# Altium schematic symbol library Amin-Library.SCHLIB: 505 symbols (part 1 of 4)
Pins are listed as number, name and electrical type; pins without a type are passive.

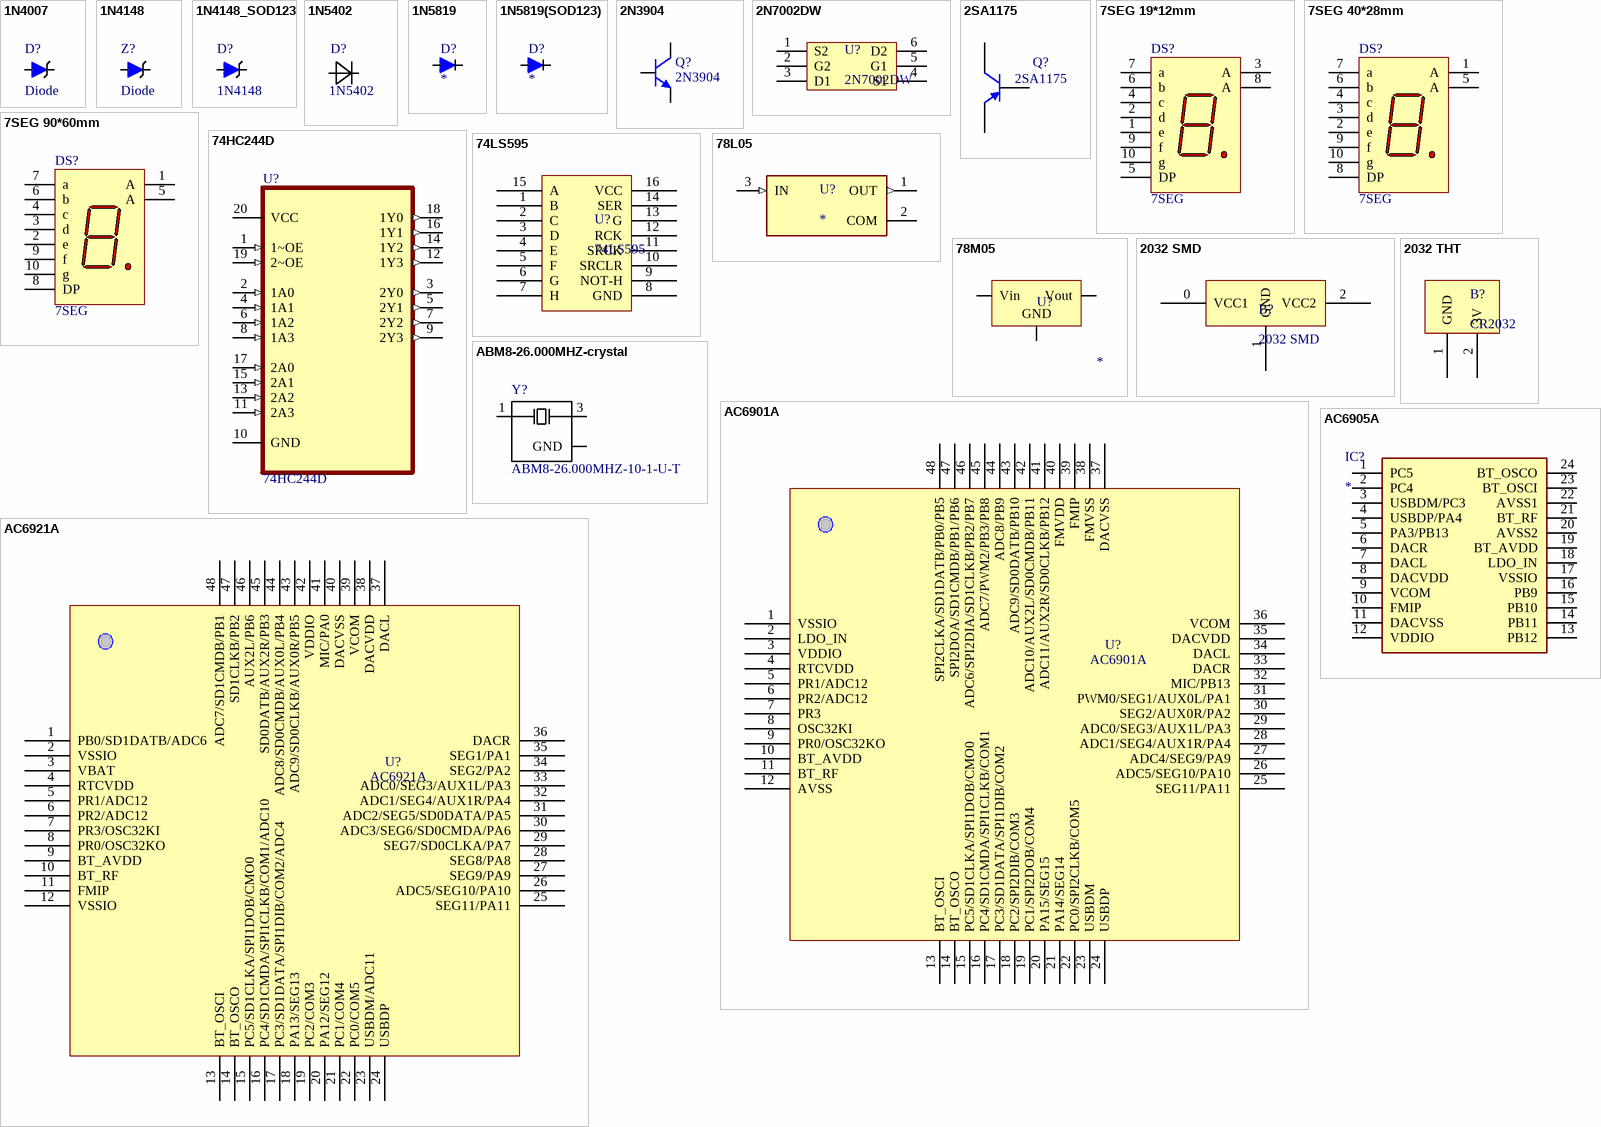
[diagram p0: symbols 1N4007 to AC6921A]

## 1N4007
designator D?, comment Diode
1N4007 DO-214AC; MP: EDZV12B; MF: ROHM Semiconductor; Price: None; Package: None; SnapEDA_Link: https://www.snapeda.com/parts/EDZV12B/EMI/view-part/4479349/?ref=snap; Availability: Unavailable; Value: *
footprint 1N4148
pins: 1 A, 2 C

## 1N4148
designator Z?, comment Diode
MP: EDZV12B; MF: ROHM Semiconductor; Price: None; Package: None; SnapEDA_Link: https://www.snapeda.com/parts/EDZV12B/EMI/view-part/4479349/?ref=snap; Availability: Unavailable; Value: *
footprint 1N4148
pins: 1 A, 2 C

## 1N4148_SOD123
designator D?, comment 1N4148
SOD-123 Package; MP: EDZV12B; MF: ROHM Semiconductor; Price: None; Package: None; SnapEDA_Link: https://www.snapeda.com/parts/EDZV12B/EMI/view-part/4479349/?ref=snap; Availability: Unavailable; Value: *
footprint 1N4148 SOD-123
pins: 1 A, 2 C

## 1N5402
designator D?
SnapEDA_Link: https://www.snapeda.com/parts/1N5402/NTE+Electronics/view-part/?ref=snap; Check_prices: https://www.snapeda.com/parts/1N5402/NTE+Electronics/view-part/?ref=eda; Value: *
pins: A, C

## 1N5819
designator D?
Shotkey diod SOD-523; MP: BAS716; MF: Nexperia USA; SnapEDA_Link: https://www.snapeda.com/parts/BAS716/Nexperia%20USA%20Inc./view-part/143287/?ref=snap; Price: None; Package: SOD-523 NXP Semiconductors; Arrow_Electronics-Purchase-URL: https://snapeda.com/shop?store=Arrow+Electronics&id=143287; Value: *; Availability: Unavailable
footprint 1N5819_SOD523
pins: 1 A, 2 C

## 1N5819(SOD123)
designator D?
Shotkey diod SOD-123; MP: BAS716; MF: Nexperia USA; SnapEDA_Link: https://www.snapeda.com/parts/BAS716/Nexperia%20USA%20Inc./view-part/143287/?ref=snap; Price: None; Package: SOD-523 NXP Semiconductors; Arrow_Electronics-Purchase-URL: https://snapeda.com/shop?store=Arrow+Electronics&id=143287; Value: *; Availability: Unavailable
footprint 1N5819 SOD-123
pins: 1 A, 2 C

## 2N3904
designator Q?
NPN General Purpose Amplifier; Published: 8-Jun-2000; LatestRevisionDate: 15-Jan-2003; LatestRevisionNote: PCB Footprint 'BCY-W3/D4.7' replaced; DatasheetVersion: 1997; PackageVersion: Sep-1998; PackageReference: TO-92A; Publisher: Altium Limited; PackageDescription: TO, Flat Index; 3 In-Line, Axial Leads; Body Dia. 4.5mm; Leads 0.51 x 0.48 mm (max); ComponentLink1Description: Manufacturer Link; ComponentLink1URL: http://www.fairchildsemi.com/; ComponentLink2Description: Datasheet; ComponentLink2URL: http://www.fairchildsemi.com/ds/2N%2F2N3904.pdf
footprint 2N3904 (BJT TRANSISTOR SOT23, 3 pin)
pins: 1 B, 2 E, 3 C

## 2N7002DW
designator U?
DUAL N-CHANNEL ENHANCEMENT MODE MOSFET
footprint SOT363
pins: 1 S2, 2 G2, 3 D1, 4 S1, 5 G1, 6 D2

## 2SA1175
designator Q?
PNP General Purpose Amplifier; Published: 8-Jun-2000; LatestRevisionDate: 15-Jan-2003; LatestRevisionNote: PCB Footprint 'BCY-W3/D4.7' replaced; DatasheetVersion: 1997; PackageVersion: Sep-1998; PackageReference: TO-92A; Publisher: Altium Limited; PackageDescription: TO, Flat Index; 3 In-Line, Axial Leads; Body Dia. 4.5mm; Leads 0.51 x 0.48 mm (max); ComponentLink1Description: Manufacturer Link; ComponentLink1URL: http://www.fairchildsemi.com/; ComponentLink2Description: Datasheet; ComponentLink2URL: http://www.fairchildsemi.com/ds/2N%2F2N3906.pdf
simulation model 2N3906 (PNP)
signal-integrity model 2N3906
footprint 2SA1175 (TO, Flat Index; 3 In-Line, Axial Leads; Body Dia. 4.5mm; Leads 0.51 x 0.48 mm (max))
pins: 1 E, 2 B, 3 C

## 7SEG 19*12mm
designator DS?, comment 7SEG
7-Segment Display 19*12mm; LED_Colour: As AlInGaP Red; Published: 26-May-2004; LatestRevisionDate: 11-Oct-2004; LatestRevisionNote: Display outline superimposed on PCB Footprint.; DatasheetDocument: 20-Nov-2001; PackageDocument: 01-Oct-2001; PackageReference: Case-5; Publisher: Altium Limited; ComponentLink1Description: Manufacturer Link; ComponentLink1URL: http://www.agilent.com/; ComponentLink2Description: Datasheet; ComponentLink2URL: http://cp.literature.agilent.com/litweb/pdf/5988-4823EN.pdf
footprint 7Seg 19*12 mm (19*12 mm)
pins: 1 e "Cathode", 2 d "Cathode", 3 A "Common Anode", 4 c "Cathode", 5 DP "Cathode", 6 b "Cathode", 7 a "Cathode", 8 A "Common Anode", 9 f "Cathode", 10 g "Cathode"

## 7SEG 40*28mm
designator DS?, comment 7SEG
7-Segment Display 40*28mm; LED_Colour: As AlInGaP Red; Published: 26-May-2004; LatestRevisionDate: 11-Oct-2004; LatestRevisionNote: Display outline superimposed on PCB Footprint.; DatasheetDocument: 20-Nov-2001; PackageDocument: 01-Oct-2001; PackageReference: Case-5; Publisher: Altium Limited; ComponentLink1Description: Manufacturer Link; ComponentLink1URL: http://www.agilent.com/; ComponentLink2Description: Datasheet; ComponentLink2URL: http://cp.literature.agilent.com/litweb/pdf/5988-4823EN.pdf
footprint 7Seg 40*28
pins: 1 A "Common Anode", 2 e "Cathode", 3 d "Cathode", 4 c "Cathode", 5 A "Common Anode", 6 b "Cathode", 7 a "Cathode", 8 DP "Cathode", 9 f "Cathode", 10 g "Cathode"

## 7SEG 90*60mm
designator DS?, comment 7SEG
7-Segment Display 90*60mm; LED_Colour: As AlInGaP Red; Published: 26-May-2004; LatestRevisionDate: 11-Oct-2004; LatestRevisionNote: Display outline superimposed on PCB Footprint.; DatasheetDocument: 20-Nov-2001; PackageDocument: 01-Oct-2001; PackageReference: Case-5; Publisher: Altium Limited; ComponentLink1Description: Manufacturer Link; ComponentLink1URL: http://www.agilent.com/; ComponentLink2Description: Datasheet; ComponentLink2URL: http://cp.literature.agilent.com/litweb/pdf/5988-4823EN.pdf
footprint 7Seg 90*60
footprint 7Seg 90*60 - No Wiring COMMON Anod
footprint 7Seg 90*60 - No Wiring COMMON Cathod
footprint 7Seg 90*60 - No Wiring COMMON Cathod - 1206
pins: 1 A "Common Anode", 2 e "Cathode", 3 d "Cathode", 4 c "Cathode", 5 A "Common Anode", 6 b "Cathode", 7 a "Cathode", 8 DP "Cathode", 9 f "Cathode", 10 g "Cathode"

## 74HC244D
designator U?
Octal buffer/line driver 3-state; MF: {'manufacturer': u'Nexperia USA'}; MP: 74HC244D,653; Value: *; Price: None; Package: None; Availability: Unavailable
footprint Model Name (Footprint not found)
footprint 74HC244D (Octal buffer/line driver - SO20 Package)
pins: 1 1~OE (in), 2 1A0 (in), 3 2Y0 (out), 4 1A1 (in), 5 2Y1 (out), 6 1A2 (in), 7 2Y2 (out), 8 1A3 (in), 9 2Y3 (out), 10 GND, 11 2A3 (in), 12 1Y3 (out), 13 2A2 (in), 14 1Y2 (out), 15 2A1 (in), 16 1Y1 (out), 17 2A0 (in), 18 1Y0 (out), 19 2~OE (in), 20 VCC (power)

## 74LS595
designator U?
footprint D016_N (16-Pin Small Outline Integrated Circuit 1.27 mm Pitch, IPC Medium Density)
footprint J016D (DIP; 16 Leads; Row Spacing 7.62 mm; Pitch 2.54 mm)
pins: 1 B, 2 C, 3 D, 4 E, 5 F, 6 G, 7 H, 8 GND, 9 NOT-H, 10 SRCLR, 11 SRCK, 12 RCK, 13 G, 14 SER, 15 A, 16 VCC

## 78L05
designator U?
Linear Voltage Regulator IC 1 Output 100mA SOT-89-3; MP: UA78L05CPK; MF: Texas Instruments; Availability: Unavailable; Package: SOT-89-3 Texas Instruments; SnapEDA_Link: https://www.snapeda.com/parts/UA78L05CPK/Texas%20Instruments/view-part/512891/?ref=snap; Value: *; Price: None
footprint 78L05
pins: 1 OUT (out), 2 COM (power), 3 IN (in)

## 78M05
designator U?
Voltage Regulator L7805 DPAK; Published: 24-Mar-1999; LatestRevisionDate: 29-May-2009; LatestRevisionNote: IPC-7351 Footprint Added.; PackageReference: D2PAK; Publisher: Altium Limited; PackageDescription: 3-Pin Transistor Outline Package 2.54 mm Pitch, 15.1 mm Lead Span
footprint 78M05 (D-PAK)
pins: 1 Vin, 2 GND, 3 Vout

## 2032 SMD
designator B?
footprint 2032 SMD
pins: 0 VCC1, 1 GND, 2 VCC2

## 2032 THT
designator B?, comment CR2032
footprint CR2032THT
pins: 1 GND, 2 3V

## ABM8-26.000MHZ-crystal
designator Y?, comment ABM8-26.000MHZ-10-1-U-T
26MHz Â±10ppm Crystal 10pF 50 Ohms 4-SMD, No Lead; MF: Abracon; Digi-Key_Part_Number: 300-8230-1-ND; SnapEDA_Link: https://www.snapeda.com/parts/ABM8-26.000MHZ-10-1-U-T/Abracon%20LLC/view-part/356267/?ref=snap; Digi-Key_Purchase_URL: https://www.digikey.com/product-detail/en/abracon-llc/ABM8-26.000MHZ-10-1-U-T/300-8230-1-ND/687923?utm_source=snapeda&utm_medium=aggregator&utm_campaign=symbol; MP: ABM8-26.000MHZ-10-1-U-T; Package: SMD-4 Abracon; Value: *
footprint *OSCSC320X250X100N
pins: 1, 2 GND (power), 3, 4 GND (power)

## AC6901A
designator U?
footprint AC6901a
pins: 1 VSSIO, 2 LDO_IN, 3 VDDIO, 4 RTCVDD, 5 PR1/ADC12, 6 PR2/ADC12, 7 PR3, 8 OSC32KI, 9 PR0/OSC32KO, 10 BT_AVDD, 11 BT_RF, 12 AVSS, 13 BT_OSCI, 14 BT_OSCO, 15 PC5/SD1CLKA/SPI1DOB/CMO0, 16 PC4/SD1CMDA/SPI1CLKB/COM1, 17 PC3/SD1DATA/SPI1DIB/COM2, 18 PC2/SPI2DIB/COM3, 19 PC1/SPI2DOB/COM4, 20 PA15/SEG15, 21 PA14/SEG14, 22 PC0/SPI2CLKB/COM5, 23 USBDM, 24 USBDP, 25 SEG11/PA11, 26 ADC5/SEG10/PA10, 27 ADC4/SEG9/PA9, 28 ADC1/SEG4/AUX1R/PA4, 29 ADC0/SEG3/AUX1L/PA3, 30 SEG2/AUX0R/PA2, 31 PWM0/SEG1/AUX0L/PA1, 32 MIC/PB13, 33 DACR, 34 DACL, 35 DACVDD, 36 VCOM, 37 DACVSS, 38 FMVSS, 39 FMIP, 40 FMVDD, 41 ADC11/AUX2R/SD0CLKB/PB12, 42 ADC10/AUX2L/SD0CMDB/PB11, 43 ADC9/SD0DATB/PB10, 44 ADC8/PB9, 45 ADC7/PWM2/PB3/PB8, 46 ADC6/SPI2DIA/SD1CLKB/PB2/PB7, 47 SPI2DOA/SD1CMDB/PB1/PB6, 48 SPI2CLKA/SD1DATB/PB0/PB5

## AC6905A
designator IC?
Integrated Circuit; Manufacturer_Name: JIELI; Manufacturer_Part_Number: AC6905A; Datasheet Link: http://img005.hc360.cn/k1/M09/34/E3/wKhQwFmw58KEPsWjAAAAAJGE4z0447.pdf; Height: 1.8mm
footprint AC6905
pins: 1 PC5, 2 PC4, 3 USBDM/PC3, 4 USBDP/PA4, 5 PA3/PB13, 6 DACR, 7 DACL, 8 DACVDD, 9 VCOM, 10 FMIP, 11 DACVSS, 12 VDDIO, 13 PB12, 14 PB11, 15 PB10, 16 PB9, 17 VSSIO, 18 LDO_IN, 19 BT_AVDD, 20 AVSS2, 21 BT_RF, 22 AVSS1, 23 BT_OSCI, 24 BT_OSCO

## AC6921A
designator U?
footprint AC6921a
pins: 1 PB0/SD1DATB/ADC6, 2 VSSIO, 3 VBAT, 4 RTCVDD, 5 PR1/ADC12, 6 PR2/ADC12, 7 PR3/OSC32KI, 8 PR0/OSC32KO, 9 BT_AVDD, 10 BT_RF, 11 FMIP, 12 VSSIO, 13 BT_OSCI, 14 BT_OSCO, 15 PC5/SD1CLKA/SPI1DOB/CMO0, 16 PC4/SD1CMDA/SPI1CLKB/COM1/ADC10, 17 PC3/SD1DATA/SPI1DIB/COM2/ADC4, 18 PA13/SEG13, 19 PC2/COM3, 20 PA12/SEG12, 21 PC1/COM4, 22 PC0/COM5, 23 USBDM/ADC11, 24 USBDP, 25 SEG11/PA11, 26 ADC5/SEG10/PA10, 27 SEG9/PA9, 28 SEG8/PA8, 29 SEG7/SD0CLKA/PA7, 30 ADC3/SEG6/SD0CMDA/PA6, 31 ADC2/SEG5/SD0DATA/PA5, 32 ADC1/SEG4/AUX1R/PA4, 33 ADC0/SEG3/AUX1L/PA3, 34 SEG2/PA2, 35 SEG1/PA1, 36 DACR, 37 DACL, 38 DACVDD, 39 VCOM, 40 DACVSS, 41 MIC/PA0, 42 VDDIO, 43 ADC9/SD0CLKB/AUX0R/PB5, 44 ADC8/SD0CMDB/AUX0L/PB4, 45 SD0DATB/AUX2R/PB3, 46 AUX2L/PB6, 47 SD1CLKB/PB2, 48 ADC7/SD1CMDB/PB1

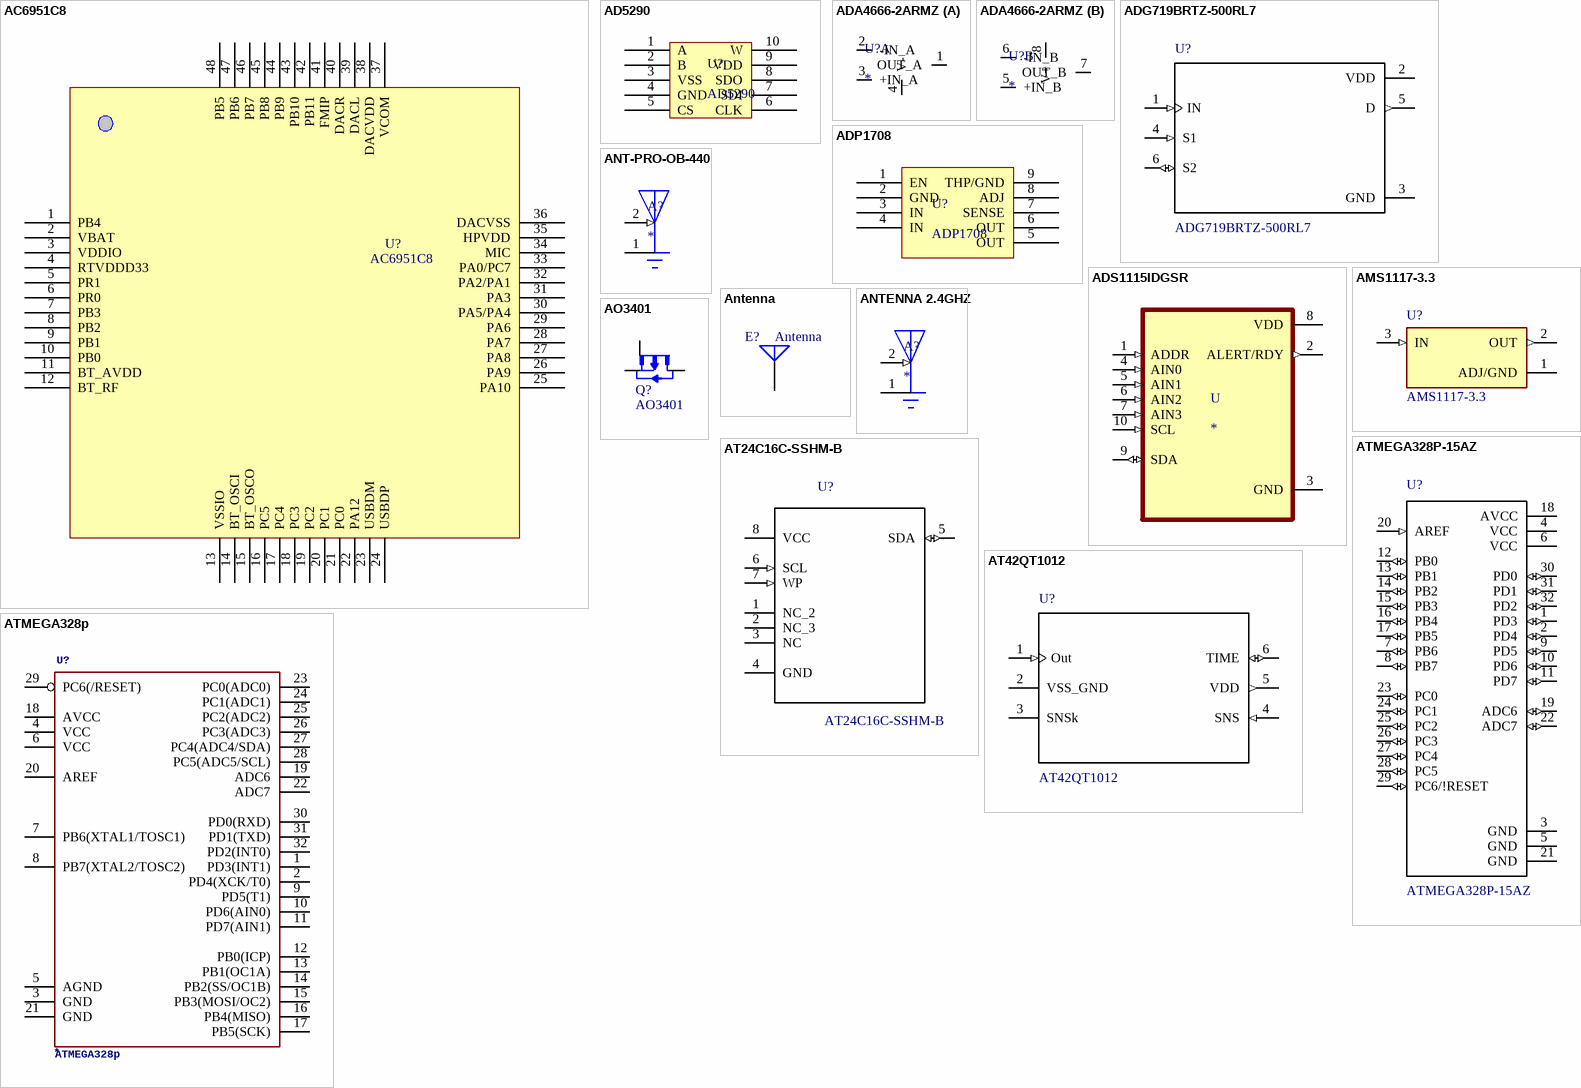
[diagram p1: symbols AC6951C8 to ATMEGA328P-15AZ]

## AC6951C8
designator U?
footprint AC6951C8 (LQFP48)
pins: 1 PB4, 2 VBAT, 3 VDDIO, 4 RTVDDD33, 5 PR1, 6 PR0, 7 PB3, 8 PB2, 9 PB1, 10 PB0, 11 BT_AVDD, 12 BT_RF, 13 VSSIO, 14 BT_OSCI, 15 BT_OSCO, 16 PC5, 17 PC4, 18 PC3, 19 PC2, 20 PC1, 21 PC0, 22 PA12, 23 USBDM, 24 USBDP, 25 PA10, 26 PA9, 27 PA8, 28 PA7, 29 PA6, 30 PA5/PA4, 31 PA3, 32 PA2/PA1, 33 PA0/PC7, 34 MIC, 35 HPVDD, 36 DACVSS, 37 VCOM, 38 DACVDD, 39 DACL, 40 DACR, 41 FMIP, 42 PB11, 43 PB10, 44 PB9, 45 PB8, 46 PB7, 47 PB6, 48 PB5

## AD5290
designator U?
Digital Potentiometer
footprint MSOP10 (MSOP 10 pitch 0.5mm)
pins: 1 A, 2 B, 3 VSS, 4 GND, 5 CS, 6 CLK, 7 SDI, 8 SDO, 9 VDD, 10 W

## ADA4666-2ARMZ
designator U?
Integrated Circuit; Manufacturer_Name: Analog Devices; Manufacturer_Part_Number: ADA4666-2ARMZ; Datasheet Link: https://docs-emea.rs-online.com/webdocs/1284/0900766b81284aba.pdf; Height: 1.1mm; Arrow Part Number: ADA4666-2ARMZ; Arrow Price/Stock: https://www.arrow.com/en/products/ada4666-2armz/analog-devices; Mouser Part Number: 584-ADA4666-2ARMZ; Mouser Price/Stock: https://www.mouser.com/Search/Refine.aspx?Keyword=584-ADA4666-2ARMZ
footprint ADA4666-2ARMZ
part A pins: 1 OUT_A, 2 -IN_A, 3 +IN_A, 4 V- (power)
part B pins: 5 +IN_B, 6 -IN_B, 7 OUT_B, 8 V+

## ADG719BRTZ-500RL7
designator U?
Analogue Switch, SPDT, 1, 4 ohm, 1.8V to 5.5V, SOT-23, 6; MF: Analog Devices; Package: SOT-23-6 Analog Devices; Availability: Unavailable; MP: ADG719BRTZ-500RL7; Price: None; SnapEDA_Link: https://www.snapeda.com/parts/ADG719BRTZ-500RL7/Analog%20Devices%20Inc./view-part/?ref=snap; Value: *
footprint ADG719
pins: 1 IN (in), 2 VDD (power), 3 GND (power), 4 S1 (in), 5 D (out), 6 S2 (io)

## ADP1708
designator U?
1 A, Low Dropout,  CMOS Linear Regulator
footprint SOIC 8 - THPAD (8-Pin Small Outline Integrated Circuit 1.27 mm Pitch, IPC Medium Density)
pins: 1 EN, 2 GND, 3 IN, 4 IN, 5 OUT, 6 OUT, 7 SENSE, 8 ADJ, 9 THP/GND

## ADS1115IDGSR
designator U
16-Bit 860SPS 4-Ch Delta-Sigma ADC With PGA, Oscillator, Vref, Comparator, and I2C 10-VSSOP -40 to 125; MF: Texas Instruments; MP: ADS1115IDGSR; SnapEDA_Link: https://www.snapeda.com/parts/ADS1115IDGSR/Texas%20Instruments/view-part/45903/?ref=snap; Value: *; Texas_Instruments-Purchase-URL: https://snapeda.com/shop?store=Texas+Instruments&id=45903; Price: None; Availability: Good; Mouser-Purchase-URL: https://snapeda.com/shop?store=Mouser&id=45903; Package: VSSOP-10 Texas Instruments; DigiKey-Purchase-URL: https://snapeda.com/shop?store=DigiKey&id=45903
footprint ADS1115_S
pins: 1 ADDR (in), 2 ALERT/RDY (out), 3 GND (power), 4 AIN0 (in), 5 AIN1 (in), 6 AIN2 (in), 7 AIN3 (in), 8 VDD (power), 9 SDA (io), 10 SCL (in)

## AMS1117-3.3
designator U?
Sot223/Pkg 1-Amp 3.3-Volt Low Drop Out Voltage Regulatator; MF: Advanced Monolithic Systems; MP: AMS1117-3.3; SnapEDA_Link: https://www.snapeda.com/parts/AMS1117-3.3/Advanced%20Monolithic%20Systems/view-part/?ref=snap; Availability: Unavailable; Package: None; Price: None; Value: *
footprint AMS1117
pins: 1 ADJ/GND (power), 2 OUT (out), 3 IN (in)

## ANT-PRO-OB-440
designator A?
2.4GHz Bluetooth, WirelessHART, WLAN, Zigbeeâ„¢ Stamped Metal RF Antenna 2.4GHz ~ 2.5GHz Solder Surface Mount; MP: PRO-OB-440; MF: Proant AB; SnapEDA_Link: https://www.snapeda.com/parts/PRO-OB-440/Proant%20AB/view-part/2307534/?ref=snap; Digi-Key_Purchase_URL: https://www.digikey.com/product-detail/en/proant-ab/PRO-OB-440/1532-1001-1-ND/4895684?utm_source=snapeda&utm_medium=aggregator&utm_campaign=symbol; Value: *; Package: None; Digi-Key_Part_Number: 1532-1001-1-ND
footprint ANT_PRO-OB-440
pins: 1 GND (power), 2 FEED (in)

## Antenna
designator E?
Generic Antenna; Published: 24-Mar-1999; LatestRevisionDate: 17-Jul-2002; LatestRevisionNote: Re-released for DXP Platform.; PackageReference: PIN1; Publisher: Altium Limited
footprint Antenna
pins: 1 A

## ANTENNA 2.4GHZ
designator A?
ESP32 ANTENNA; MP: PRO-OB-440; MF: Proant AB; SnapEDA_Link: https://www.snapeda.com/parts/PRO-OB-440/Proant%20AB/view-part/2307534/?ref=snap; Digi-Key_Purchase_URL: https://www.digikey.com/product-detail/en/proant-ab/PRO-OB-440/1532-1001-1-ND/4895684?utm_source=snapeda&utm_medium=aggregator&utm_campaign=symbol; Value: *; Package: None; Digi-Key_Part_Number: 1532-1001-1-ND
footprint ANTENNA 2.4GHZ (ESP32 ANTENNA)
footprint ANTENNA 2.4GHZ - TI (TI ANTENNA)
footprint ANTENNA 2.4GHZ - NXP (ESP32 ANTENNA)
footprint ANTENNA 2.4GHZ - NXP 2 (ESP32 ANTENNA)
pins: 1 GND (power), 2 FEED (in)

## AO3401
designator Q?
P-Channel 30V 4A _Ta_ 1.4W _Ta_ Surface Mount SOT-23-3; MF: Alpha & Omega Semiconductor; Value: *; MP: AO3401; SnapEDA_Link: https://www.snapeda.com/parts/AO3401/Alpha%20%26%20Omega%20Semiconductor/view-part/4592622/?ref=snap; Availability: Unavailable; Package: SOT-23-3 Alpha &amp; Omega Semiconductor; Price: None
footprint AO3401 (SOT23, 3 pin)
pins: 1 G, 2 S, 3 D

## AT24C16C-SSHM-B
designator U?
AT24C16C Series 16 Kb _2 K x 8_ 1.7 V I2C-Compatible Serial EEPROM - SOIC-8; MF: Microchip; Price: None; Package: SOIC-8 Microchip; Availability: Unavailable; SnapEDA_Link: https://www.snapeda.com/parts/AT24C16C-SSHM-B/Microchip/view-part/?ref=snap; MP: AT24C16C-SSHM-B; Value: *
footprint *SOIC127P600X175-8N
pins: 1 NC_2, 2 NC_3, 3 NC, 4 GND, 5 SDA (io), 6 SCL (in), 7 WP (in), 8 VCC (power)

## AT42QT1012
designator U?
capacitance touch sensor; MP: ADG719BRTZ-500RL7; MF: Analog Devices; Package: SOT-23-6 Analog Devices; Availability: Unavailable; Price: None; SnapEDA_Link: https://www.snapeda.com/parts/ADG719BRTZ-500RL7/Analog%20Devices%20Inc./view-part/?ref=snap; Value: *
footprint AT42QT1012
pins: 1 Out (in), 2 VSS_GND (power), 3 SNSk (power), 4 SNS (in), 5 VDD (out), 6 TIME (io)

## ATMEGA328p
designator U?
NAME: *
footprint Atmega328p
pins: 1 PD3(INT1), 2 PD4(XCK/T0), 3 GND, 4 VCC, 5 AGND, 6 VCC, 7 PB6(XTAL1/TOSC1), 8 PB7(XTAL2/TOSC2), 9 PD5(T1), 10 PD6(AIN0), 11 PD7(AIN1), 12 PB0(ICP), 13 PB1(OC1A), 14 PB2(SS/OC1B), 15 PB3(MOSI/OC2), 16 PB4(MISO), 17 PB5(SCK), 18 AVCC, 19 ADC6, 20 AREF, 21 GND, 22 ADC7, 23 PC0(ADC0), 24 PC1(ADC1), 25 PC2(ADC2), 26 PC3(ADC3), 27 PC4(ADC4/SDA), 28 PC5(ADC5/SCL), 29 PC6(/RESET), 30 PD0(RXD), 31 PD1(TXD), 32 PD2(INT0)

## ATMEGA328P-15AZ
designator U?
MCU 8-bit ATmega AVR RISC 32KB Flash 3.3V/5V Automotive 32-Pin TQFP; MF: Microchip; SnapEDA_Link: https://www.snapeda.com/parts/ATMEGA328P-15AZ/Microchip/view-part/?ref=snap; Availability: Unavailable; Package: TQFP-32 Microchip; MP: ATMEGA328P-15AZ; Price: None; Value: *
footprint Atmega328p
pins: 1 PD3 (io), 2 PD4 (io), 3 GND (power), 4 VCC (power), 5 GND (power), 6 VCC (power), 7 PB6 (io), 8 PB7 (io), 9 PD5 (io), 10 PD6 (io), 11 PD7 (io), 12 PB0 (io), 13 PB1 (io), 14 PB2 (io), 15 PB3 (io), 16 PB4 (io), 17 PB5 (io), 18 AVCC (power), 19 ADC6 (io), 20 AREF (in), 21 GND (power), 22 ADC7 (io), 23 PC0 (io), 24 PC1 (io), 25 PC2 (io), 26 PC3 (io), 27 PC4 (io), 28 PC5 (io), 29 PC6/!RESET (io), 30 PD0 (io), 31 PD1 (io), 32 PD2 (io)

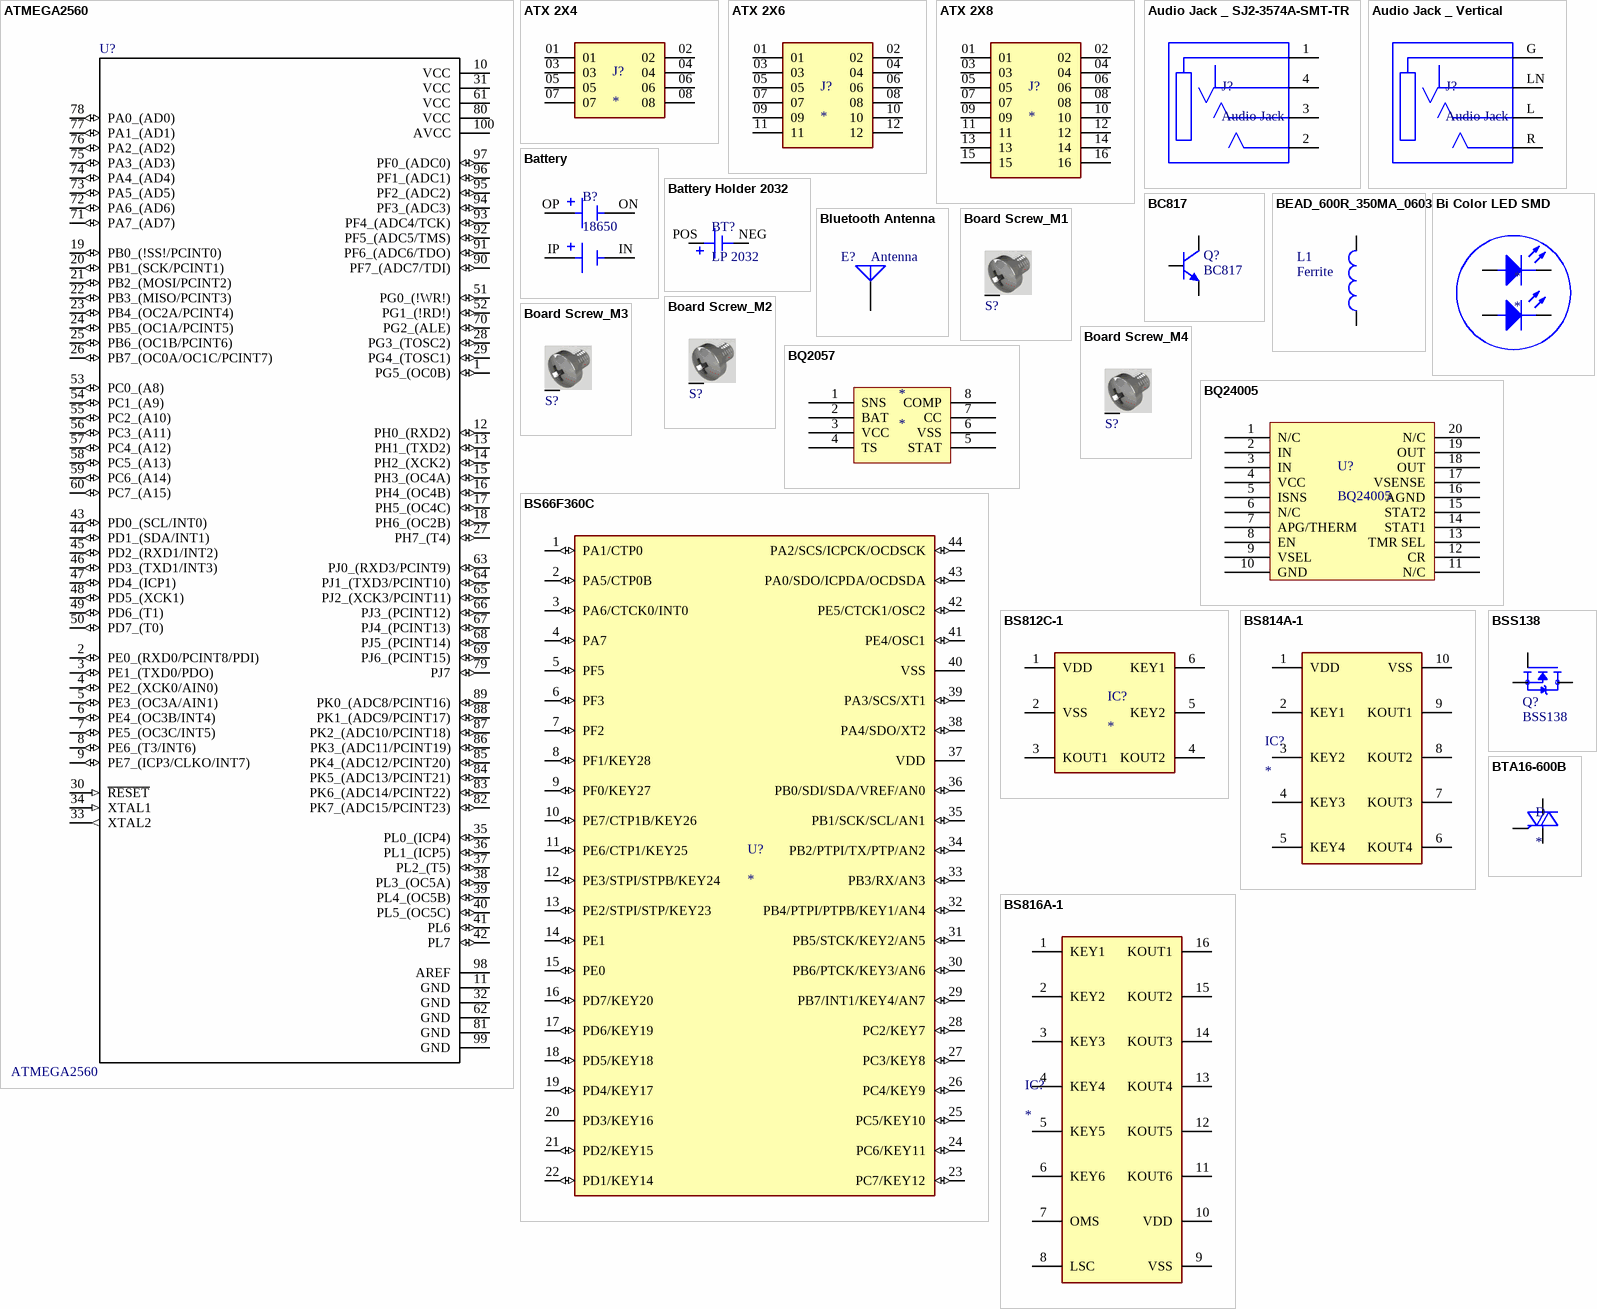
[diagram p2: symbols ATMEGA2560 to BTA16-600B]

## ATMEGA2560
designator U?
Semiconductors and Actives, ic, Microprocessors, mcu, Microcontrollers; MF: Microchip; Price: None; SnapEDA_Link: https://www.snapeda.com/parts/ATMEGA2560/Microchip/view-part/?ref=snap; Availability: Unavailable; MP: ATMEGA2560; Package: TQFP-100 Microchip; Value: *
footprint Atmega2560
pins: 1 PG5_(OC0B) (io), 2 PE0_(RXD0/PCINT8/PDI) (io), 3 PE1_(TXD0/PDO) (io), 4 PE2_(XCK0/AIN0) (io), 5 PE3_(OC3A/AIN1) (io), 6 PE4_(OC3B/INT4) (io), 7 PE5_(OC3C/INT5) (io), 8 PE6_(T3/INT6) (io), 9 PE7_(ICP3/CLKO/INT7) (io), 10 VCC (power), 11 GND (power), 12 PH0_(RXD2) (io), 13 PH1_(TXD2) (io), 14 PH2_(XCK2) (io), 15 PH3_(OC4A) (io), 16 PH4_(OC4B) (io), 17 PH5_(OC4C) (io), 18 PH6_(OC2B) (io), 19 PB0_(!SS!/PCINT0) (io), 20 PB1_(SCK/PCINT1) (io), 21 PB2_(MOSI/PCINT2) (io), 22 PB3_(MISO/PCINT3) (io), 23 PB4_(OC2A/PCINT4) (io), 24 PB5_(OC1A/PCINT5) (io), 25 PB6_(OC1B/PCINT6) (io), 26 PB7_(OC0A/OC1C/PCINT7) (io), 27 PH7_(T4) (io), 28 PG3_(TOSC2) (io), 29 PG4_(TOSC1) (io), 30 ~{RESET} (in), 31 VCC (power), 32 GND (power), 33 XTAL2 (out), 34 XTAL1 (in), 35 PL0_(ICP4) (io), 36 PL1_(ICP5) (io), 37 PL2_(T5) (io), 38 PL3_(OC5A) (io), 39 PL4_(OC5B) (io), 40 PL5_(OC5C) (io), 41 PL6 (io), 42 PL7 (io), 43 PD0_(SCL/INT0) (io), 44 PD1_(SDA/INT1) (io), 45 PD2_(RXD1/INT2) (io), 46 PD3_(TXD1/INT3) (io), 47 PD4_(ICP1) (io), 48 PD5_(XCK1) (io), 49 PD6_(T1) (io), 50 PD7_(T0) (io), 51 PG0_(!WR!) (io), 52 PG1_(!RD!) (io), 53 PC0_(A8) (io), 54 PC1_(A9) (io), 55 PC2_(A10) (io), 56 PC3_(A11) (io), 57 PC4_(A12) (io), 58 PC5_(A13) (io), 59 PC6_(A14) (io), 60 PC7_(A15) (io), 61 VCC (power), 62 GND (power), 63 PJ0_(RXD3/PCINT9) (io), 64 PJ1_(TXD3/PCINT10) (io), 65 PJ2_(XCK3/PCINT11) (io), 66 PJ3_(PCINT12) (io), 67 PJ4_(PCINT13) (io), 68 PJ5_(PCINT14) (io), 69 PJ6_(PCINT15) (io), 70 PG2_(ALE) (io), 71 PA7_(AD7) (io), 72 PA6_(AD6) (io), 73 PA5_(AD5) (io), 74 PA4_(AD4) (io), 75 PA3_(AD3) (io), 76 PA2_(AD2) (io), 77 PA1_(AD1) (io), 78 PA0_(AD0) (io), 79 PJ7 (io), 80 VCC (power), 81 GND (power), 82 PK7_(ADC15/PCINT23) (io), 83 PK6_(ADC14/PCINT22) (io), 84 PK5_(ADC13/PCINT21) (io), 85 PK4_(ADC12/PCINT20) (io), 86 PK3_(ADC11/PCINT19) (io), 87 PK2_(ADC10/PCINT18) (io), 88 PK1_(ADC9/PCINT17) (io), 89 PK0_(ADC8/PCINT16) (io), 90 PF7_(ADC7/TDI) (io), 91 PF6_(ADC6/TDO) (io), 92 PF5_(ADC5/TMS) (io), 93 PF4_(ADC4/TCK) (io), 94 PF3_(ADC3) (io), 95 PF2_(ADC2) (io), 96 PF1_(ADC1) (io), 97 PF0_(ADC0) (io), 98 AREF (power), 99 GND (power), 100 AVCC (power)

## ATX 2X4
designator J?
ATX Connector; MP: TW-06-09-F-D-170-SM; MF: Samtec; Price: None; Purchase-URL: https://pricing.snapeda.com/search/part/TW-06-09-F-D-170-SM/?ref=eda; Package: None; Check_prices: https://www.snapeda.com/parts/TW-06-09-F-D-170-SM/Samtec/view-part/3525255/?ref=eda; SnapEDA_Link: https://www.snapeda.com/parts/TW-06-09-F-D-170-SM/Samtec/view-part/3525255/?ref=snap; Value: *; Availability: Bad
footprint ATX 2X4
footprint ATX 2X4 - R
pins: 01, 02, 03, 04, 05, 06, 07, 08

## ATX 2X6
designator J?
ATX Connector; MP: TW-06-09-F-D-170-SM; MF: Samtec; Price: None; Purchase-URL: https://pricing.snapeda.com/search/part/TW-06-09-F-D-170-SM/?ref=eda; Package: None; Check_prices: https://www.snapeda.com/parts/TW-06-09-F-D-170-SM/Samtec/view-part/3525255/?ref=eda; SnapEDA_Link: https://www.snapeda.com/parts/TW-06-09-F-D-170-SM/Samtec/view-part/3525255/?ref=snap; Value: *; Availability: Bad
footprint ATX 2X6
footprint ATX 2X6 - R
pins: 01, 02, 03, 04, 05, 06, 07, 08, 09, 10, 11, 12

## ATX 2X8
designator J?
ATX Connector; MP: TW-06-09-F-D-170-SM; MF: Samtec; Price: None; Purchase-URL: https://pricing.snapeda.com/search/part/TW-06-09-F-D-170-SM/?ref=eda; Package: None; Check_prices: https://www.snapeda.com/parts/TW-06-09-F-D-170-SM/Samtec/view-part/3525255/?ref=eda; SnapEDA_Link: https://www.snapeda.com/parts/TW-06-09-F-D-170-SM/Samtec/view-part/3525255/?ref=snap; Value: *; Availability: Bad
footprint ATX 2X8
footprint ATX 2X8 - R
pins: 01, 02, 03, 04, 05, 06, 07, 08, 09, 10, 11, 12, 13, 14, 15, 16

## Audio Jack _ SJ2-3574A-SMT-TR
designator J?, comment Audio Jack
3.5 mm, Stereo, Right Angle, Surface Mount _SMT_, Audio Jack Connector; MF: CUI Devices; MP: SJ2-3574A-SMT-TR; Package: None; Value: *; Availability: Unavailable; SnapEDA_Link: https://www.snapeda.com/parts/SJ2-3574A-SMT-TR/CUI%20Devices/view-part/648175/?ref=snap; Price: None
footprint Audio jack_ CUI_SJ2-3574A-SMT-TR
pins: 1 SLEEVE, 2 TIP, 3 RING1, 4 RING2

## Audio Jack _ Vertical
designator J?, comment Audio Jack
3.5 mm, Stereo, Vertical; MF: CUI Devices; MP: SJ2-3574A-SMT-TR; Package: None; Value: *; Availability: Unavailable; SnapEDA_Link: https://www.snapeda.com/parts/SJ2-3574A-SMT-TR/CUI%20Devices/view-part/648175/?ref=snap; Price: None
footprint 3.5_Female
pins: G SLEEVE, L RING1, LN RING2, R TIP

## Battery
designator B?, comment 18650
Battery Holder; MP: LP2032SM-JJ-GTR; MF: MPD; DigiKey-Purchase-URL: https://snapeda.com/shop?store=DigiKey&id=288457; Value: *; Package: Non-Standard MPD; Price: None; SnapEDA_Link: https://www.snapeda.com/parts/LP2032SM-JJ-GTR/MPD%20(Memory%20Protection%20Devices)/view-part/288457/?ref=snap; Availability: Warning
footprint bATTERY (HHG1D-1)
pins: IN, IP, ON, OP

## Battery Holder 2032
designator BT?, comment LP 2032
Battery Holder (Open) Coin, 20.0mm 1 Cell SMD (SMT) Tab; MP: LP2032SM-JJ-GTR; MF: MPD; DigiKey-Purchase-URL: https://snapeda.com/shop?store=DigiKey&id=288457; Value: *; Package: Non-Standard MPD; Price: None; SnapEDA_Link: https://www.snapeda.com/parts/LP2032SM-JJ-GTR/MPD%20(Memory%20Protection%20Devices)/view-part/288457/?ref=snap; Availability: Warning
footprint battery Holder 2032
pins: NEG, POS

## BC817
designator Q?
NPN General Purpose Amplifier BJT; Published: 8-Jun-2000; LatestRevisionDate: 15-Jan-2003; LatestRevisionNote: PCB Footprint 'BCY-W3/D4.7' replaced; DatasheetVersion: 1997; PackageVersion: Sep-1998; PackageReference: TO-92A; Publisher: Altium Limited; PackageDescription: TO, Flat Index; 3 In-Line, Axial Leads; Body Dia. 4.5mm; Leads 0.51 x 0.48 mm (max); ComponentLink1Description: Manufacturer Link; ComponentLink1URL: http://www.fairchildsemi.com/; ComponentLink2Description: Datasheet; ComponentLink2URL: http://www.fairchildsemi.com/ds/2N%2F2N3904.pdf
footprint BC817 (SOT23-3)
pins: 1 B, 2 E, 3 C

## BEAD_600R_350MA_0603
designator L1, comment Ferrite
Bead,600R,350mA,0603,FCM1608KF-601T03,Tai-tech; Manuf_2: TDK; Manuf_Part_2: MPZ1608S300A; Value: 100uH; Comment_1: bead,30R,5A,0603,MPZ1608S300A,TDK; Revision: July-2002: Re-released for DXP Platform.; Manuf_Part_1: FCM1608KF-601T03; Order: FCM1608KF-601T03; Manuf_1: Tai-tech; ECCN_US/EU: n/a
footprint BEAD_600R_350MA_0603
pins: 1, 2

## Bi Color LED SMD
designator *
footprint BI COLOR LED
pins: 1 A, 2 K, 3 A, 4 K

## Bluetooth Antenna
designator E?, comment Antenna
Generic Antenna; Published: 24-Mar-1999; LatestRevisionDate: 17-Jul-2002; LatestRevisionNote: Re-released for DXP Platform.; PackageReference: PIN1; Publisher: Altium Limited
footprint Bluetooth antenna
pins: 1 A

## Board Screw_M1
designator S?, comment M1  (value not drawn)
Board Screw With Spacer; فروشگاه: خرید خارج-جوان الکترونیک
footprint Board Screw 3mm
pins: S

## Board Screw_M2
designator S?, comment M2  (value not drawn)
Board Screw With Spacer; فروشگاه: خرید خارج-جوان الکترونیک
pins: S

## Board Screw_M3
designator S?, comment M3  (value not drawn)
Board Screw With Spacer; فروشگاه: خرید خارج-جوان الکترونیک
footprint Board Screw 3mm
pins: S

## Board Screw_M4
designator S?, comment M4  (value not drawn)
Board Screw With Spacer; فروشگاه: خرید خارج-جوان الکترونیک
pins: S

## BQ2057
designator *
footprint D008_N (8-Pin Small Outline Integrated Circuit 1.27 mm Pitch, IPC Medium Density)
pins: 1 SNS, 2 BAT, 3 VCC, 4 TS, 5 STAT, 6 VSS, 7 CC, 8 COMP

## BQ24005
designator U?
TWO-CELL Li-ION CHARGE MANAGEMENT IC; Company: Texas Instruments
footprint PW020 (Shrink Small Outline; 20 Leads; Body Width 4.4 mm; Pitch 0.65 mm)
pins: 1 N/C, 2 IN, 3 IN, 4 VCC, 5 ISNS, 6 N/C, 7 APG/THERM, 8 EN, 9 VSEL, 10 GND, 11 N/C, 12 CR, 13 TMR SEL, 14 STAT1, 15 STAT2, 16 AGND, 17 VSENSE, 18 OUT, 19 OUT, 20 N/C

## BS66F360C
designator U?
Integrated Circuit; Manufacturer_Name: Holtek; Manufacturer_Part_Number: BS66F360; Datasheet Link: https://4donline.ihs.com/images/VipMasterIC/IC/HOLS/HOLS-S-A0013887567/HOLS-S-A0013919017-1.pdf?hkey=EF798316E3902B6ED9A73243A3159BB0; Height: 1.6mm
footprint BS66F360C (QFP80P1200X1200X160-44N)
pins: 1 PA1/CTP0 (io), 2 PA5/CTP0B (io), 3 PA6/CTCK0/INT0 (io), 4 PA7 (io), 5 PF5 (io), 6 PF3 (io), 7 PF2 (io), 8 PF1/KEY28 (io), 9 PF0/KEY27 (io), 10 PE7/CTP1B/KEY26 (io), 11 PE6/CTP1/KEY25 (io), 12 PE3/STPI/STPB/KEY24 (io), 13 PE2/STPI/STP/KEY23 (io), 14 PE1 (io), 15 PE0 (io), 16 PD7/KEY20 (io), 17 PD6/KEY19 (io), 18 PD5/KEY18 (io), 19 PD4/KEY17 (io), 20 PD3/KEY16, 21 PD2/KEY15 (io), 22 PD1/KEY14 (io), 23 PC7/KEY12 (io), 24 PC6/KEY11 (io), 25 PC5/KEY10 (io), 26 PC4/KEY9 (io), 27 PC3/KEY8 (io), 28 PC2/KEY7 (io), 29 PB7/INT1/KEY4/AN7 (io), 30 PB6/PTCK/KEY3/AN6 (io), 31 PB5/STCK/KEY2/AN5 (io), 32 PB4/PTPI/PTPB/KEY1/AN4 (io), 33 PB3/RX/AN3 (io), 34 PB2/PTPI/TX/PTP/AN2 (io), 35 PB1/SCK/SCL/AN1 (io), 36 PB0/SDI/SDA/VREF/AN0 (io), 37 VDD (power), 38 PA4/SDO/XT2 (io), 39 PA3/SCS/XT1 (io), 40 VSS (power), 41 PE4/OSC1 (io), 42 PE5/CTCK1/OSC2 (io), 43 PA0/SDO/ICPDA/OCDSDA (io), 44 PA2/SCS/ICPCK/OCDSCK (io)

## BS812C-1
designator IC?
Integrated Circuit; Manufacturer_Name: Holtek; Manufacturer_Part_Number: BS814A-1; Datasheet Link: https://www.holtek.com/documents/10179/116711/BS81xA-xv150.pdf; Height: 1.1mm
footprint BS812C-1 (SOT23-6)
pins: 1 VDD, 2 VSS, 3 KOUT1, 4 KOUT2, 5 KEY2, 6 KEY1

## BS814A-1
designator IC?
Integrated Circuit; Manufacturer_Name: Holtek; Manufacturer_Part_Number: BS814A-1; Datasheet Link: https://www.holtek.com/documents/10179/116711/BS81xA-xv150.pdf; Height: 1.1mm
footprint BS814A-1
pins: 1 VDD, 2 KEY1, 3 KEY2, 4 KEY3, 5 KEY4, 6 KOUT4, 7 KOUT3, 8 KOUT2, 9 KOUT1, 10 VSS

## BS816A-1
designator IC?
6_ch touch sensor 16-pin NSOP; Manufacturer_Name: Holtek; Manufacturer_Part_Number: BS816A-1; Datasheet Link: https://www.holtek.com/documents/10179/116711/BS81xA-xv150.pdf; Height: 1.75mm
footprint BS816A-1
pins: 1 KEY1, 2 KEY2, 3 KEY3, 4 KEY4, 5 KEY5, 6 KEY6, 7 OMS, 8 LSC, 9 VSS, 10 VDD, 11 KOUT6, 12 KOUT5, 13 KOUT4, 14 KOUT3, 15 KOUT2, 16 KOUT1

## BSS138
designator Q?
footprint BSS138 (SOT23-3)
pins: 1 G, 2 S, 3 D

## BTA16-600B
designator D
TRIAC Alternistor - Snubberless 600V 16A Through Hole TO-220AB; MP: BTA16/600B; MF: STMicroelectronics; Package: TO-220 Comset Semiconductors; Availability: Unavailable; SnapEDA_Link: https://www.snapeda.com/parts/BTA16/600B/STMicroelectronics/view-part/554113/?ref=snap; Price: None; Value: *
footprint BTA16
pins: 1 A1, 2 A2, 3 G

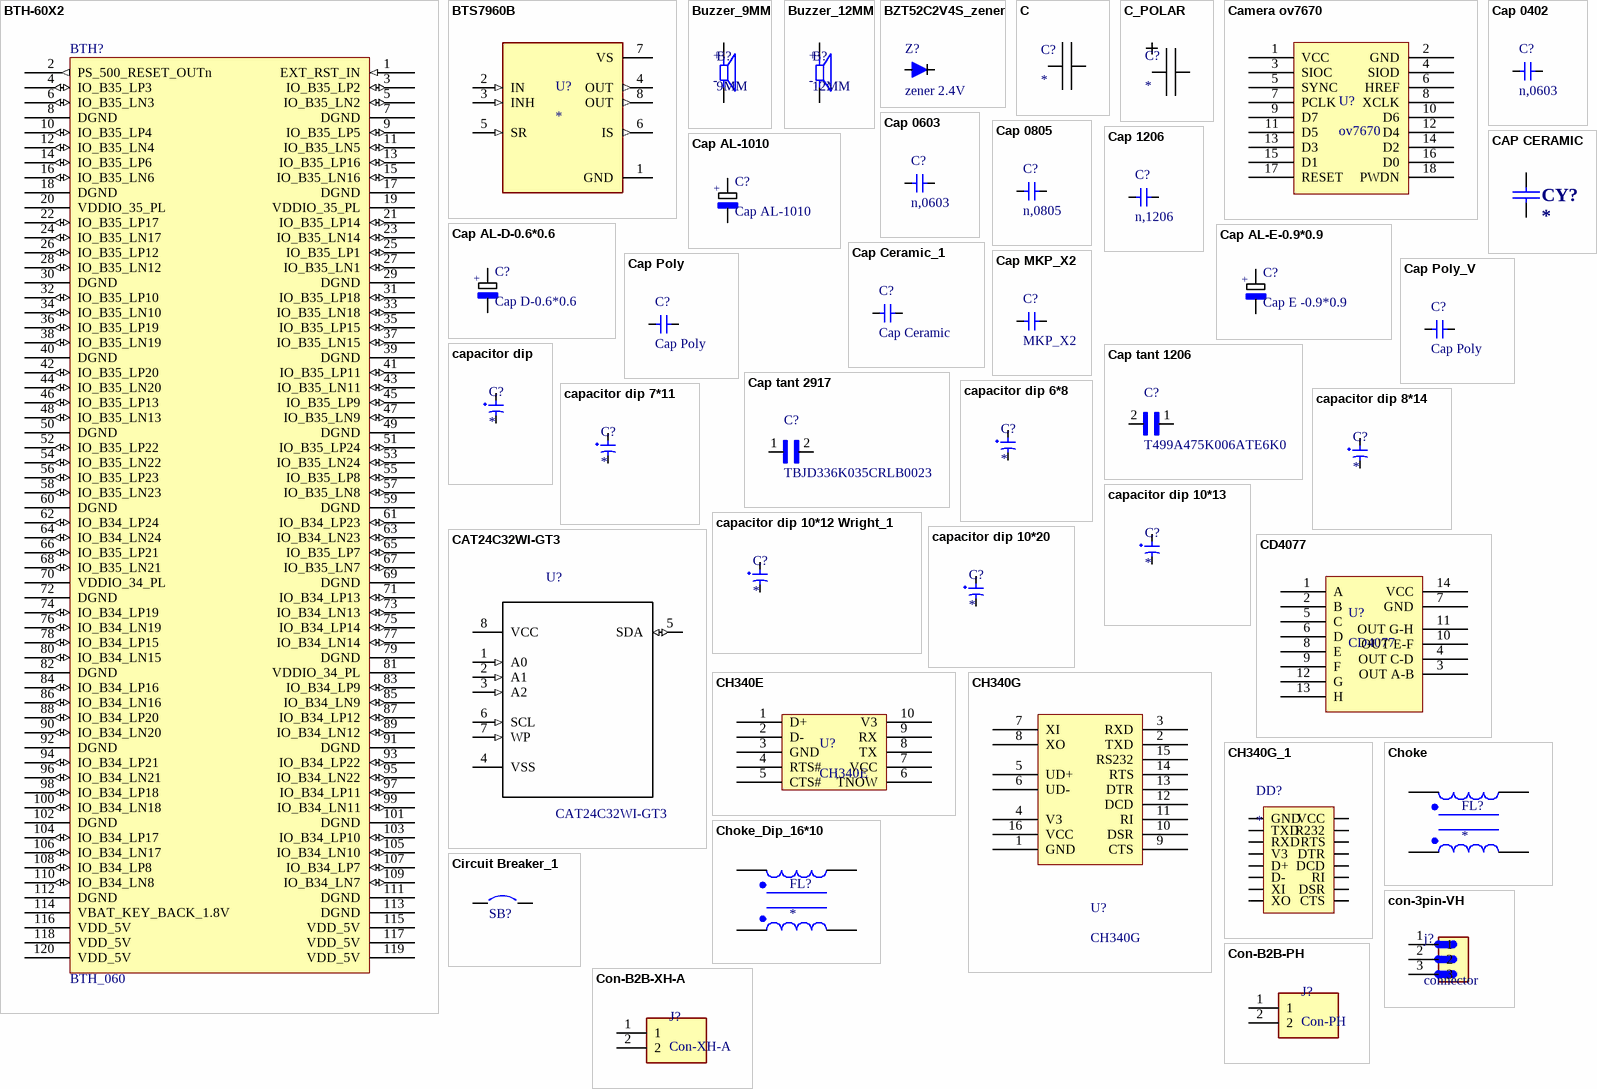
[diagram p3: symbols BTH-60X2 to Con-B2B-XH-A]

## BTH-60X2
designator BTH?, comment BTH_060
footprint BTH-060-XX-X-D-A
pins: 1 EXT_RST_IN (in), 2 PS_500_RESET_OUTn (out), 3 IO_B35_LP2 (io), 4 IO_B35_LP3 (io), 5 IO_B35_LN2 (io), 6 IO_B35_LN3 (io), 7 DGND (power), 8 DGND (power), 9 IO_B35_LP5 (io), 10 IO_B35_LP4 (io), 11 IO_B35_LN5 (io), 12 IO_B35_LN4 (io), 13 IO_B35_LP16 (io), 14 IO_B35_LP6 (io), 15 IO_B35_LN16 (io), 16 IO_B35_LN6 (io), 17 DGND (oe), 18 DGND (power), 19 VDDIO_35_PL (power), 20 VDDIO_35_PL (power), 21 IO_B35_LP14 (io), 22 IO_B35_LP17 (io), 23 IO_B35_LN14 (io), 24 IO_B35_LN17 (io), 25 IO_B35_LP1 (io), 26 IO_B35_LP12 (io), 27 IO_B35_LN1 (io), 28 IO_B35_LN12 (io), 29 DGND (oe), 30 DGND (power), 31 IO_B35_LP18 (io), 32 IO_B35_LP10 (io), 33 IO_B35_LN18 (io), 34 IO_B35_LN10 (io), 35 IO_B35_LP15 (io), 36 IO_B35_LP19 (io), 37 IO_B35_LN15 (io), 38 IO_B35_LN19 (io), 39 DGND (oe), 40 DGND (power), 41 IO_B35_LP11 (io), 42 IO_B35_LP20 (io), 43 IO_B35_LN11 (io), 44 IO_B35_LN20 (io), 45 IO_B35_LP9 (io), 46 IO_B35_LP13 (io), 47 IO_B35_LN9 (io), 48 IO_B35_LN13 (io), 49 DGND (oe), 50 DGND (power), 51 IO_B35_LP24 (io), 52 IO_B35_LP22 (io), 53 IO_B35_LN24 (io), 54 IO_B35_LN22 (io), 55 IO_B35_LP8 (io), 56 IO_B35_LP23 (io), 57 IO_B35_LN8 (io), 58 IO_B35_LN23 (io), 59 DGND (oe), 60 DGND (power), 61 IO_B34_LP23 (io), 62 IO_B34_LP24 (io), 63 IO_B34_LN23 (io), 64 IO_B34_LN24 (io), 65 IO_B35_LP7 (io), 66 IO_B35_LP21 (io), 67 IO_B35_LN7 (io), 68 IO_B35_LN21 (io), 69 DGND (oe), 70 VDDIO_34_PL (power), 71 IO_B34_LP13 (io), 72 DGND (power), 73 IO_B34_LN13 (io), 74 IO_B34_LP19 (io), 75 IO_B34_LP14 (io), 76 IO_B34_LN19 (io), 77 IO_B34_LN14 (io), 78 IO_B34_LP15 (io), 79 DGND (oe), 80 IO_B34_LN15 (io), 81 VDDIO_34_PL (oe), 82 DGND (power), 83 IO_B34_LP9 (io), 84 IO_B34_LP16 (io), 85 IO_B34_LN9 (io), 86 IO_B34_LN16 (io), 87 IO_B34_LP12 (io), 88 IO_B34_LP20 (io), 89 IO_B34_LN12 (io), 90 IO_B34_LN20 (io), 91 DGND (oe), 92 DGND (power), 93 IO_B34_LP22 (io), 94 IO_B34_LP21 (io), 95 IO_B34_LN22 (io), 96 IO_B34_LN21 (io), 97 IO_B34_LP11 (io), 98 IO_B34_LP18 (io), 99 IO_B34_LN11 (io), 100 IO_B34_LN18 (io), 101 DGND (oe), 102 DGND (power), 103 IO_B34_LP10 (io), 104 IO_B34_LP17 (io), 105 IO_B34_LN10 (io), 106 IO_B34_LN17 (io), 107 IO_B34_LP7 (io), 108 IO_B34_LP8 (io), 109 IO_B34_LN7 (io), 110 IO_B34_LN8 (io), 111 DGND (oe), 112 DGND (power), 113 DGND (oe), 114 VBAT_KEY_BACK_1.8V (power), 115 VDD_5V (oe), 116 VDD_5V (power), 117 VDD_5V (oe), 118 VDD_5V (power), 119 VDD_5V (oe), 120 VDD_5V (power)

## BTS7960B
designator U?
Half Bridge Driver DC Motors, General Purpose DMOS P-TO263-7; MF: Infineon; MP: BTS7960B; SnapEDA_Link: https://www.snapeda.com/parts/BTS7960B/Infineon%20Technologies/view-part/567474/?ref=snap; Price: None; Package: TO-263 Infineon; Value: *; Availability: Unavailable
footprint BTS7960B (High Current PN Half Bridge P-TO-263-7)
pins: 1 GND (power), 2 IN (in), 3 INH (in), 4 OUT (out), 5 SR (in), 6 IS (out), 7 VS (power), 8 OUT (out)

## Buzzer_9MM
designator B?, comment 9MM
09 mm, 5 V, 85 dB, Through Hole, Magnetic Audio Transducer Buzzer; MF: CUI Devices; MP: CEM-1203(42); Package: None; Price: None; Check_prices: https://www.snapeda.com/parts/CEM-1203(42)/CUI+Devices/view-part/?ref=eda; Value: *; CUI_purchase_URL: https://www.cuidevices.com/product/audio/buzzers/audio-transducers/cem-1203(42)?utm_source=snapeda.com&utm_medium=referral&utm_campaign=snapedaBOM; SnapEDA_Link: https://www.snapeda.com/parts/CEM-1203(42)/CUI+Devices/view-part/?ref=snap; Availability: In Stock; Purchase-URL: https://pricing.snapeda.com/search/part/CEM-1203(42)/?ref=eda
footprint Buzzer-TMB09A05 (Buzzer 9mm)
pins: N, P
text: +; -

## Buzzer_12MM
designator B?, comment 12MM
12 mm, 5 V, 85 dB, Through Hole, Magnetic Audio Transducer Buzzer; MF: CUI Devices; MP: CEM-1203(42); Package: None; Price: None; Check_prices: https://www.snapeda.com/parts/CEM-1203(42)/CUI+Devices/view-part/?ref=eda; Value: *; CUI_purchase_URL: https://www.cuidevices.com/product/audio/buzzers/audio-transducers/cem-1203(42)?utm_source=snapeda.com&utm_medium=referral&utm_campaign=snapedaBOM; SnapEDA_Link: https://www.snapeda.com/parts/CEM-1203(42)/CUI+Devices/view-part/?ref=snap; Availability: In Stock; Purchase-URL: https://pricing.snapeda.com/search/part/CEM-1203(42)/?ref=eda
footprint BUZZER_12MM
pins: N, P
text: +; -

## BZT52C2V4S_zener
designator Z?, comment zener 2.4V
Zener Diodes 2.4 volts; MP: EDZV12B; MF: ROHM Semiconductor; Price: None; Package: None; SnapEDA_Link: https://www.snapeda.com/parts/EDZV12B/EMI/view-part/4479349/?ref=snap; Availability: Unavailable; Value: *
footprint BZT52C2V4S_zener
pins: A, C

## C
designator C?
footprint 0805
pins: 1, 2

## C_POLAR
designator C?
footprint 4x5.4
pins: 1, 2

## Camera ov7670
designator U?, comment ov7670
camera
footprint Camera ov7670 (Connector; Header; 13x2 Position)
pins: 1 VCC, 2 GND, 3 SIOC, 4 SIOD, 5 SYNC, 6 HREF, 7 PCLK, 8 XCLK, 9 D7, 10 D6, 11 D5, 12 D4, 13 D3, 14 D2, 15 D1, 16 D0, 17 RESET, 18 PWDN

## Cap 0402
designator C?, comment n,0603
Capacitor 0402; Value: 104; Published: 8-Jun-2000; LatestRevisionDate: 17-Jul-2002; LatestRevisionNote: Re-released for DXP Platform.; Publisher: Altium Limited
simulation model CAP (Capacitor)
signal-integrity model Cap
footprint CAP0402
pins: 1, 2

## Cap 0603
designator C?, comment n,0603
Capacitor 0603; Value: 104; Published: 8-Jun-2000; LatestRevisionDate: 17-Jul-2002; LatestRevisionNote: Re-released for DXP Platform.; Publisher: Altium Limited
simulation model CAP (Capacitor)
signal-integrity model Cap
footprint cap0603
pins: 1, 2

## Cap 0805
designator C?, comment n,0805
Capacitor 0805; Value: 104; Published: 8-Jun-2000; LatestRevisionDate: 17-Jul-2002; LatestRevisionNote: Re-released for DXP Platform.; Publisher: Altium Limited
footprint CAP 0805
pins: 1, 2

## Cap 1206
designator C?, comment n,1206
Capacitor 1206; Value: 104; Published: 8-Jun-2000; LatestRevisionDate: 17-Jul-2002; LatestRevisionNote: Re-released for DXP Platform.; Publisher: Altium Limited
footprint CAP 1206
pins: 1, 2

## Cap AL-1010
designator C?
Aluminum Electrolytic Capacitors - SMD; MF: Lelon; MP: VZH471M1ETR-1010; Price: None; Package: None; SnapEDA_Link: https://www.snapeda.com/parts/VZH471M1ETR-1010/Lelon/view-part/2450679/?ref=snap; Availability: Unavailable; Value: *
footprint Cap AL
pins: NEG, POS
text: +

## Cap AL-D-0.6*0.6
designator C?, comment Cap D-0.6*0.6
Aluminum Electrolytic Capacitors - SMD; MF: Lelon; MP: VZH471M1ETR-1010; Price: None; Package: None; SnapEDA_Link: https://www.snapeda.com/parts/VZH471M1ETR-1010/Lelon/view-part/2450679/?ref=snap; Availability: Unavailable; Value: *
footprint CAP-D-0.6*0.6
pins: NEG, POS
text: +

## Cap AL-E-0.9*0.9
designator C?, comment Cap E -0.9*0.9
Aluminum Electrolytic Capacitors - SMD; MF: Lelon; MP: VZH471M1ETR-1010; Price: None; Package: None; SnapEDA_Link: https://www.snapeda.com/parts/VZH471M1ETR-1010/Lelon/view-part/2450679/?ref=snap; Availability: Unavailable; Value: *
footprint CAP-E-0.9*0.9
pins: 1 POS, 2 NEG
text: +

## CAP CERAMIC
designator CY?
CERAMIC Capacitor
footprint Cap Ceramic
pins: 1, 2
2 alternate drawings of the same symbol

## Cap Ceramic_1
designator C?, comment Cap Ceramic
Cap Ceramic (For saferty); Value: 104; Published: 8-Jun-2000; LatestRevisionDate: 17-Jul-2002; LatestRevisionNote: Re-released for DXP Platform.; Publisher: Altium Limited
pins: 1, 2

## Cap MKP_X2
designator C?, comment MKP_X2
Cap MKP_X2 13mm; Value: 104; Published: 8-Jun-2000; LatestRevisionDate: 17-Jul-2002; LatestRevisionNote: Re-released for DXP Platform.; Publisher: Altium Limited
footprint CAP POLY_V 8.5*10MM
pins: 1, 2

## Cap Poly
designator C?
polyester capacitor 8.5*10 mm; Value: 104; Published: 8-Jun-2000; LatestRevisionDate: 17-Jul-2002; LatestRevisionNote: Re-released for DXP Platform.; Publisher: Altium Limited
footprint CAP POLY 8.5*10MM
pins: 1, 2

## Cap Poly_V
designator C?, comment Cap Poly
polyester capacitor 8.5*10 mm; Value: 104; Published: 8-Jun-2000; LatestRevisionDate: 17-Jul-2002; LatestRevisionNote: Re-released for DXP Platform.; Publisher: Altium Limited
footprint CAP POLY_V 8.5*10MM
pins: 1, 2

## Cap tant 1206
designator C?, comment T499A475K006ATE6K0
Cap, Tant, 4.7uf, 6.3v, Case a; MF: KEMET; MP: T499A475K006ATE6K0; SnapEDA_Link: https://www.snapeda.com/parts/T499A475K006ATE6K0/KEMET/view-part/1684329/?ref=snap; Package: 1206 KEMET; Digi-Key_Part_Number: 399-4990-1-ND; Digi-Key_Purchase_URL: https://www.digikey.com/product-detail/en/kemet/T499A475K006ATE6K0/399-4990-1-ND/1211740?utm_source=snapeda&utm_medium=aggregator&utm_campaign=symbol; Value: *
footprint *CAPC3216X110N
pins: 1, 2

## Cap tant 2917
designator C?, comment TBJD336K035CRLB0023
Cap Tant 33uf 10% 35v 2917; MF: AVX; MP: TBJD336K035CRLB0023; SnapEDA_Link: https://www.snapeda.com/parts/TBJD336K035CRLB0023/AVX/view-part/1726434/?ref=snap; Availability: Unavailable; Package: 2917 AVX; Price: None; Value: *
footprint CAP tantal 1206
pins: 1, 2

## capacitor dip
designator C?
2200ÂµF 50V Aluminum Electrolytic Capacitors Radial, Can 1000 Hrs @ 105Â°C; MF: Nichicon; MP: UVZ1H222MHD; Package: Radial Nichicon; Value: *; Price: None; SnapEDA_Link: https://www.snapeda.com/parts/UVZ1H222MHD/Nichicon/view-part/468437/?ref=snap; Availability: Unavailable
footprint capacitor dip
pins: NEG, POS

## capacitor dip 6*8
designator C?
2200ÂµF 50V Aluminum Electrolytic Capacitors Radial, Can 1000 Hrs @ 105Â°C; MF: Nichicon; MP: UVZ1H222MHD; Package: Radial Nichicon; Value: *; Price: None; SnapEDA_Link: https://www.snapeda.com/parts/UVZ1H222MHD/Nichicon/view-part/468437/?ref=snap; Availability: Unavailable
footprint CAP DIP 6*8
pins: 1 POS, 2 NEG

## capacitor dip 7*11
designator C?
2200ÂµF 50V Aluminum Electrolytic Capacitors Radial, Can 1000 Hrs @ 105Â°C; MF: Nichicon; MP: UVZ1H222MHD; Package: Radial Nichicon; Value: *; Price: None; SnapEDA_Link: https://www.snapeda.com/parts/UVZ1H222MHD/Nichicon/view-part/468437/?ref=snap; Availability: Unavailable
footprint CAP DIP Wright 7*11
pins: 1 POS, 2 NEG

## capacitor dip 8*14
designator C?
2200ÂµF 50V Aluminum Electrolytic Capacitors Radial, Can 1000 Hrs @ 105Â°C; MF: Nichicon; MP: UVZ1H222MHD; Package: Radial Nichicon; Value: *; Price: None; SnapEDA_Link: https://www.snapeda.com/parts/UVZ1H222MHD/Nichicon/view-part/468437/?ref=snap; Availability: Unavailable
footprint cap dip 8*14
pins: 1 POS, 2 NEG

## capacitor dip 10*12 Wright_1
designator C?
2200ÂµF 50V Aluminum Electrolytic Capacitors Radial, Can 1000 Hrs @ 105Â°C; MF: Nichicon; MP: UVZ1H222MHD; Package: Radial Nichicon; Value: *; Price: None; SnapEDA_Link: https://www.snapeda.com/parts/UVZ1H222MHD/Nichicon/view-part/468437/?ref=snap; Availability: Unavailable
footprint CAP DIP WRIGHT UP
pins: 1 POS, 2 NEG

## capacitor dip 10*13
designator C?
2200ÂµF 50V Aluminum Electrolytic Capacitors Radial, Can 1000 Hrs @ 105Â°C; MF: Nichicon; MP: UVZ1H222MHD; Package: Radial Nichicon; Value: *; Price: None; SnapEDA_Link: https://www.snapeda.com/parts/UVZ1H222MHD/Nichicon/view-part/468437/?ref=snap; Availability: Unavailable
footprint CAP DIP 10*13 (CAP 10*13)
pins: 1 POS, 2 NEG

## capacitor dip 10*20
designator C?
2200ÂµF 50V Aluminum Electrolytic Capacitors Radial, Can 1000 Hrs @ 105Â°C; MF: Nichicon; MP: UVZ1H222MHD; Package: Radial Nichicon; Value: *; Price: None; SnapEDA_Link: https://www.snapeda.com/parts/UVZ1H222MHD/Nichicon/view-part/468437/?ref=snap; Availability: Unavailable
footprint cap  dip 10*20
pins: 1 POS, 2 NEG

## CAT24C32WI-GT3
designator U?
32KB I2C SER EEPROM; MF: ON; Availability: Unavailable; Price: None; SnapEDA_Link: https://www.snapeda.com/parts/CAT24C32WI-GT3/ON%20Semiconductor/view-part/?ref=snap; MP: CAT24C32WI-GT3; Package: SOIC-8 ON; Value: *
footprint Cat24C32W
pins: 1 A0 (in), 2 A1 (in), 3 A2 (in), 4 VSS, 5 SDA (io), 6 SCL (in), 7 WP (in), 8 VCC (power)

## CD4077
designator U?
CMOS Quad  Exclusive-NOR Gate
footprint SOP-14
pins: 1 A, 2 B, 3 OUT A-B, 4 OUT C-D, 5 C, 6 D, 7 GND, 8 E, 9 F, 10 OUT E-F, 11 OUT G-H, 12 G, 13 H, 14 VCC

## CH340E
designator U?
TTL IC
footprint UMAX10 (Shrink Small Outline; 10 Leads; Body Width 3 mm; Pitch 0.5 mm)
footprint Model Name (Model Description)
pins: 1 D+, 2 D-, 3 GND, 4 RTS#, 5 CTS#, 6 TNOW, 7 VCC, 8 TX, 9 RX, 10 V3

## CH340G
designator U?
footprint CH340G
pins: 1 GND, 2 TXD, 3 RXD, 4 V3, 5 UD+, 6 UD-, 7 XI, 8 XO, 9 CTS, 10 DSR, 11 RI, 12 DCD, 13 DTR, 14 RTS, 15 RS232, 16 VCC

## CH340G_1
designator DD?
footprint CH340G
pins: 1 GND, 2 TXD, 3 RXD, 4 V3, 5 D+, 6 D-, 7 XI, 8 XO, 9 CTS, 10 DSR, 11 RI, 12 DCD, 13 DTR, 14 RTS, 15 R232, 16 VCC

## Choke
designator FL?
Line Common Mode Choke; MP: DLW5BTZ101TQ2L; MF: Murata; Availability: Warning; Package: None; Purchase-URL: https://pricing.snapeda.com/search/part/DLW5BTZ101TQ2L/?ref=eda; SnapEDA_Link: https://www.snapeda.com/parts/DLW5BTZ101TQ2L/Murata/view-part/1501550/?ref=snap; Price: None; Check_prices: https://www.snapeda.com/parts/DLW5BTZ101TQ2L/Murata/view-part/1501550/?ref=eda; Value: *
footprint CHOKE (SMD Common MODE Filter)
pins: 1, 2, 3, 4

## Choke_Dip_16*10
designator FL?
Line Common Mode Choke; MP: DLW5BTZ101TQ2L; MF: Murata; Availability: Warning; Package: None; Purchase-URL: https://pricing.snapeda.com/search/part/DLW5BTZ101TQ2L/?ref=eda; SnapEDA_Link: https://www.snapeda.com/parts/DLW5BTZ101TQ2L/Murata/view-part/1501550/?ref=snap; Price: None; Check_prices: https://www.snapeda.com/parts/DLW5BTZ101TQ2L/Murata/view-part/1501550/?ref=eda; Value: *
footprint CHOKE - Dip _ 16x10 (SMD Common MODE Filter ECMT1V1717S)
pins: 1, 2, 3, 4

## Circuit Breaker_1
designator SB?, comment Circuit Breaker  (value not drawn)
Solder: NO; Revision: July-2002: Re-released for DXP Platform.
footprint JP2_SMD
pins: 1, 2

## con-3pin-VH
designator j?, comment connector
VH Connector 3pin; MP: EDZV12B; MF: ROHM Semiconductor; Price: None; Package: None; SnapEDA_Link: https://www.snapeda.com/parts/EDZV12B/EMI/view-part/4479349/?ref=snap; Availability: Unavailable; Value: *
footprint VH connector-B3P (VH connector 3pin)
pins: 1, 2, 3

## Con-B2B-PH
designator J?, comment Con-PH
Connector Header Through Hole 2 position 2mm; MP: B2B-XH-A_LF__SN_; MF: JST Sales; Price: None; Package: None; Value: *; Availability: Unavailable; SnapEDA_Link: https://www.snapeda.com/parts/B2B-XH-A%28LF%29%28SN%29/JST%20Sales%20America%20Inc./view-part/492310/?ref=snap
footprint PH-B2B-JST-K-S
pins: 1, 2

## Con-B2B-XH-A
designator J?, comment Con-XH-A
Connector Header Through Hole 2 position 0.098 _2.50mm_; MP: B2B-XH-A_LF__SN_; MF: JST Sales; Price: None; Package: None; Value: *; Availability: Unavailable; SnapEDA_Link: https://www.snapeda.com/parts/B2B-XH-A%28LF%29%28SN%29/JST%20Sales%20America%20Inc./view-part/492310/?ref=snap
footprint Con-JST_B2B-XH-A
pins: 1, 2

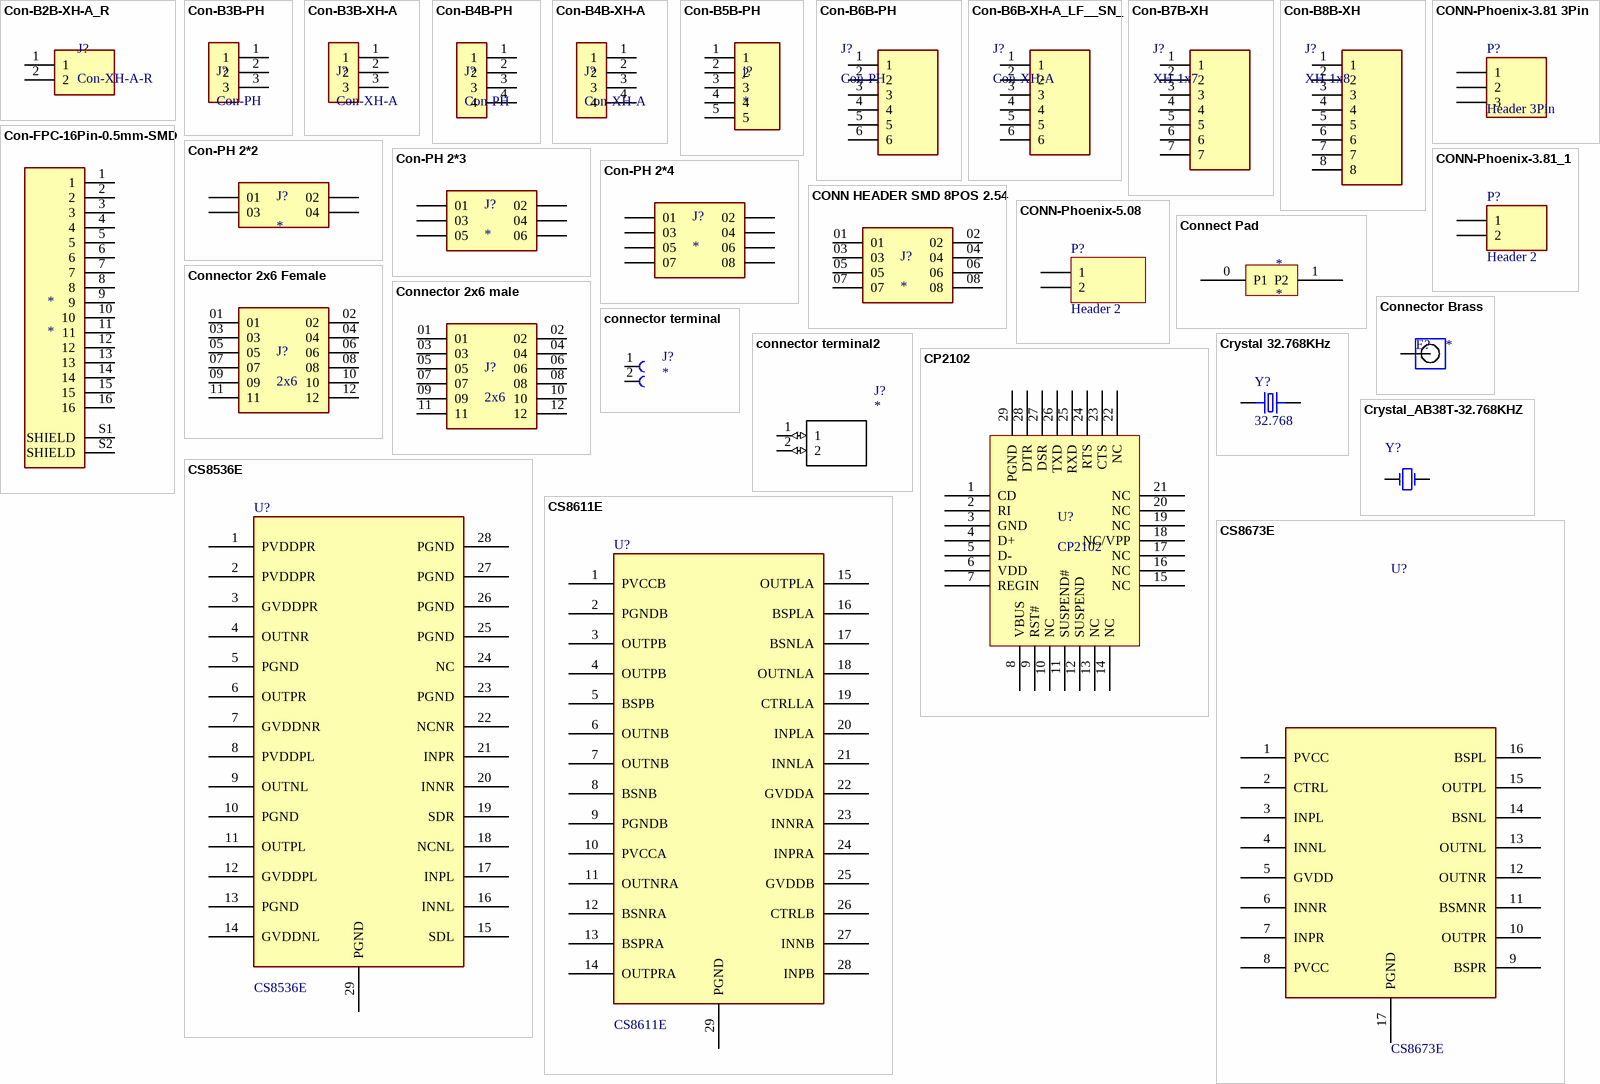
[diagram p4: symbols Con-B2B-XH-A_R to CS8673E]

## Con-B2B-XH-A_R
designator J?, comment Con-XH-A-R
Connector Header Through Hole 2 position 0.098 _2.50mm_Right; MP: B2B-XH-A_LF__SN_; MF: JST Sales; Price: None; Package: None; Value: *; Availability: Unavailable; SnapEDA_Link: https://www.snapeda.com/parts/B2B-XH-A%28LF%29%28SN%29/JST%20Sales%20America%20Inc./view-part/492310/?ref=snap
footprint Con-JST_B2B-XH-A-Right
pins: 1, 2

## Con-B3B-PH
designator J?, comment Con-PH
Connector Header Through Hole 3 position 2mm_; MP: B4B-XH-A_LF__SN_; MF: JST Sales; Price: None; Package: None; Value: *; Availability: Unavailable; SnapEDA_Link: https://www.snapeda.com/parts/B4B-XH-A%28LF%29%28SN%29/JST%20Sales%20America%20Inc./view-part/447494/?ref=snap
footprint PH-B3B-JST-K-S
pins: 1, 2, 3

## Con-B3B-XH-A
designator J?, comment Con-XH-A
Connector Header Through Hole 3 position 0.098 _2.50mm_; MP: B4B-XH-A_LF__SN_; MF: JST Sales; Price: None; Package: None; Value: *; Availability: Unavailable; SnapEDA_Link: https://www.snapeda.com/parts/B4B-XH-A%28LF%29%28SN%29/JST%20Sales%20America%20Inc./view-part/447494/?ref=snap
footprint Con_JST_B3B-XH-A
pins: 1, 2, 3

## Con-B4B-PH
designator J?, comment Con-PH
Connector Header Through Hole 4 position 2mm; MP: B4B-XH-A_LF__SN_; MF: JST Sales; Price: None; Package: None; Value: *; Availability: Unavailable; SnapEDA_Link: https://www.snapeda.com/parts/B4B-XH-A%28LF%29%28SN%29/JST%20Sales%20America%20Inc./view-part/447494/?ref=snap
footprint PH-B4B-JST-K-S
pins: 1, 2, 3, 4

## Con-B4B-XH-A
designator J?, comment Con-XH-A
Connector Header Through Hole 4 position 0.098 _2.50mm_; MP: B4B-XH-A_LF__SN_; MF: JST Sales; Price: None; Package: None; Value: *; Availability: Unavailable; SnapEDA_Link: https://www.snapeda.com/parts/B4B-XH-A%28LF%29%28SN%29/JST%20Sales%20America%20Inc./view-part/447494/?ref=snap
footprint Con_JST_B4B-XH-A
pins: 1, 2, 3, 4

## Con-B5B-PH
designator j?
footprint PH-B5B-JST-K-S
pins: 1, 2, 3, 4, 5

## Con-B6B-PH
designator J?, comment Con-PH
Connector B6B-PH; Manufacturer_Name: JST Sales America; Manufacturer_Part_Number: B6B-XH-A(LF)(SN); Datasheet Link: https://datasheet.lcsc.com/szlcsc/JST-Sales-America-B6B-XH-A-LF-SN_C144397.pdf; Height: 7mm
footprint PH-B6B-JST-K-S
pins: 1, 2, 3, 4, 5, 6

## Con-B6B-XH-A_LF__SN_
designator J?, comment Con-XH-A
Connector B6B-XH-A; Manufacturer_Name: JST Sales America; Manufacturer_Part_Number: B6B-XH-A(LF)(SN); Datasheet Link: https://datasheet.lcsc.com/szlcsc/JST-Sales-America-B6B-XH-A-LF-SN_C144397.pdf; Height: 7mm
footprint Con_JST_B6B-XH-A
pins: 1, 2, 3, 4, 5, 6

## Con-B7B-XH
designator J?, comment XH-1x7
Connector; Manufacturer_Name: JST (JAPAN SOLDERLESS TERMINALS); Manufacturer_Part_Number: B7B-XH-A(LF)(SN); Datasheet Link: http://www.jst-mfg.com/product/pdf/eng/eXH.pdf; Height: 7mm; Arrow Part Number: B7B-XH-A(LF)(SN); Arrow Price/Stock: https://www.arrow.com/en/products/b7b-xh-a-lf-sn/jst-manufacturing
footprint Con-B7B-XH
pins: 1, 2, 3, 4, 5, 6, 7

## Con-B8B-XH
designator J?, comment XH-1x8
Connector; Manufacturer_Name: JST (JAPAN SOLDERLESS TERMINALS); Manufacturer_Part_Number: B7B-XH-A(LF)(SN); Datasheet Link: http://www.jst-mfg.com/product/pdf/eng/eXH.pdf; Height: 7mm; Arrow Part Number: B7B-XH-A(LF)(SN); Arrow Price/Stock: https://www.arrow.com/en/products/b7b-xh-a-lf-sn/jst-manufacturing
footprint Con-B8B-XH
pins: 1, 2, 3, 4, 5, 6, 7, 8

## Con-FPC-16Pin-0.5mm-SMD
designator *
footprint Con-FPC-16Pin-0.5mm-SMD
pins: 1, 2, 3, 4, 5, 6, 7, 8, 9, 10, 11, 12, 13, 14, 15, 16, S1 SHIELD, S2 SHIELD

## Con-PH 2*2
designator J?
Connector -PH 2*2; Manufacturer_Name: JST Sales America; Manufacturer_Part_Number: B6B-XH-A(LF)(SN); Datasheet Link: https://datasheet.lcsc.com/szlcsc/JST-Sales-America-B6B-XH-A-LF-SN_C144397.pdf; Height: 7mm
footprint Con-PH 2*2
pins: 01, 02, 03, 04

## Con-PH 2*3
designator J?
Connector -PH 2*3; Manufacturer_Name: JST Sales America; Manufacturer_Part_Number: B6B-XH-A(LF)(SN); Datasheet Link: https://datasheet.lcsc.com/szlcsc/JST-Sales-America-B6B-XH-A-LF-SN_C144397.pdf; Height: 7mm
footprint Con-PH 2*3
pins: 01, 02, 03, 04, 05, 06

## Con-PH 2*4
designator J?
Connector -PH 2*4; Manufacturer_Name: JST Sales America; Manufacturer_Part_Number: B6B-XH-A(LF)(SN); Datasheet Link: https://datasheet.lcsc.com/szlcsc/JST-Sales-America-B6B-XH-A-LF-SN_C144397.pdf; Height: 7mm
footprint Con-PH 2*4
pins: 01, 02, 03, 04, 05, 06, 07, 08

## CONN HEADER SMD 8POS 2.54
designator J?
CONN HEADER SMD 8POS 2.54MM      TSM-104-04-G-DV-A; MF: Samtec; Package: None; MP: TSM-104-04-G-DV-A; Purchase-URL: https://pricing.snapeda.com/search/part/TSM-104-04-G-DV-A/?ref=eda; Check_prices: https://www.snapeda.com/parts/TSM-104-04-G-DV-A/Samtec/view-part/3406256/?ref=eda; Value: *; Price: None; Availability: Not in stock; SnapEDA_Link: https://www.snapeda.com/parts/TSM-104-04-G-DV-A/Samtec/view-part/3406256/?ref=snap
footprint CONN HEADER 2x4 SMD
pins: 01, 02, 03, 04, 05, 06, 07, 08

## CONN-Phoenix-3.81 3Pin
designator P?, comment Header 3Pin
Phoenix Connector 3.81; LatestRevisionDate: 17-Jul-2002; LatestRevisionNote: Re-released for DXP Platform.; Publisher: Altium Limited
footprint CONN-PHOENIX-3.81 3Pin
pins: 1, 2, 3

## CONN-Phoenix-3.81_1
designator P?, comment Header 2
Phoenix Connector 3.81; LatestRevisionDate: 17-Jul-2002; LatestRevisionNote: Re-released for DXP Platform.; Publisher: Altium Limited
footprint CONN-PHOENIX-3.81
pins: 1, 2

## CONN-Phoenix-5.08
designator P?, comment Header 2
Phoenix Connector 5.08; LatestRevisionDate: 17-Jul-2002; LatestRevisionNote: Re-released for DXP Platform.; Publisher: Altium Limited
footprint CONN-PHOENIX-5.08
pins: 1, 2

## Connect Pad
designator *
footprint Connect Pad (Connect Pad 2pin)
pins: 0 P1, 1 P2

## Connector 2x6 Female
designator J?, comment 2x6
MP: TSW-106-26-G-D; Price: None; Value: *; Availability: Unavailable; Package: None
footprint Connector 2x6 female
pins: 01, 02, 03, 04, 05, 06, 07, 08, 09, 10, 11, 12

## Connector 2x6 male
designator J?, comment 2x6
MP: TSW-106-26-G-D; Price: None; Value: *; Availability: Unavailable; Package: None
footprint connector 2x6 male
pins: 01, 02, 03, 04, 05, 06, 07, 08, 09, 10, 11, 12

## Connector Brass
designator E?
Connector Brass; Published: 24-Mar-1999; LatestRevisionDate: 17-Jul-2002; LatestRevisionNote: Re-released for DXP Platform.; PackageReference: PIN1; Publisher: Altium Limited
footprint Connector Brass
pins: 1 A

## connector terminal
designator J?
2 Position Wire to Board Terminal Block Horizontal with Board 0.197 _5.00mm_ Through Hole; MP: 691102710002; MF: Wurth Electronics; Price: None; Package: None; SnapEDA_Link: https://www.snapeda.com/parts/691102710002/Wurth%20Electronics%20Inc./view-part/1195090/?ref=snap; Availability: Unavailable; Value: *
footprint *691102710002
pins: 1, 2